# Altium schematic symbol library SKY66112-11.SchLib: 1 symbol
Pins are listed as number, name and electrical type; pins without a type are passive.

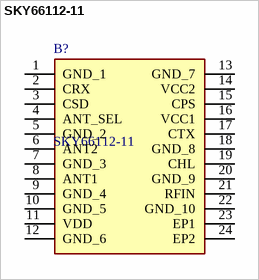
[diagram p0: symbol SKY66112-11]

## SKY66112-11
designator B?
RF Front End Cnnctd Home/Wearable BLE+ZigBee Family; Manufacturer_Name: Skyworks; Geometry.Height: 1mm; Mouser Part Number: 873-SKY66112-11; Mouser Price/Stock: https://www.mouser.co.uk/ProductDetail/Skyworks-Solutions-Inc/SKY66112-11?qs=4FzvMsMEDja0u%2FwQhEjpuw%3D%3D; Manufacturer_Part_Number: SKY66112-11; Datasheet Link: https://datasheet.datasheetarchive.com/originals/distributors/DKDS-19/379304.pdf
footprint SKY6611211
pins: 1 GND_1, 2 CRX, 3 CSD, 4 ANT_SEL, 5 GND_2, 6 ANT2, 7 GND_3, 8 ANT1, 9 GND_4, 10 GND_5, 11 VDD, 12 GND_6, 13 GND_7, 14 VCC2, 15 CPS, 16 VCC1, 17 CTX, 18 GND_8, 19 CHL, 20 GND_9, 21 RFIN, 22 GND_10, 23 EP1, 24 EP2